# Altium footprint library TFLGA65P500X500X106-14_13N-V.PcbLib: 1 footprints
Each footprint in its own frame and in the unit in brackets; x right, y up, seen from the top. Pads: shape width x height; smd on the part's side, far side on the other; paste and mask are expansions set on the pad; w line width, h text height; cw(c..) or ccw(c..) is an arc to the next point about the centre after c.
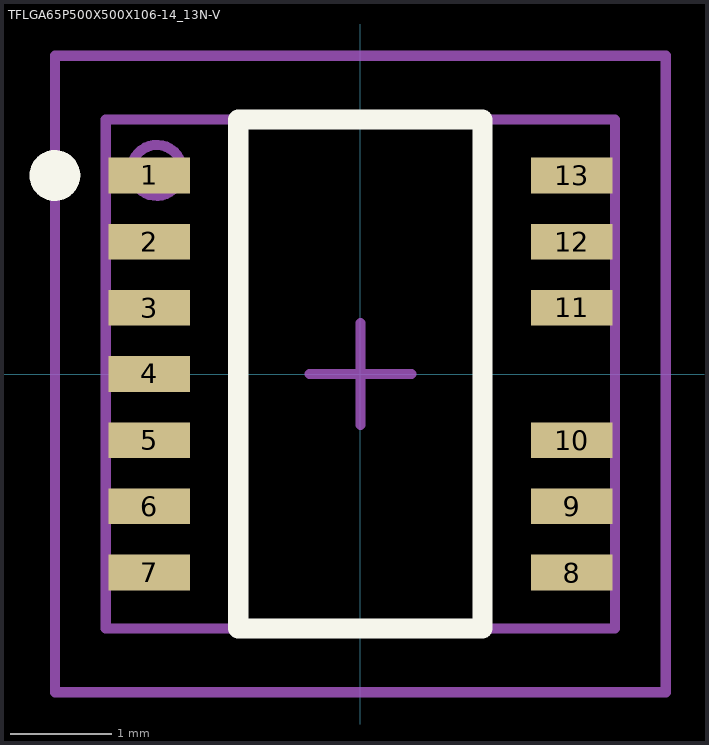
[diagram p0: the footprint, top view; thin cyan lines are the x and y axes]

## TFLGA65P500X500X106-14_13N-V [mm] "TFLGA,0.65mm pitch;13 pin,5.00mm W X 5.00mm L X 1.06mm H body (w/pullback leads)"
height 1.06
pads (13):
  rect 0.8x0.35 smd paste-0.8 mask+0: 1(-2.075,1.95) 2(-2.075,1.3) 3(-2.075,0.65) 4(-2.075,0) 5(-2.075,-0.65) 6(-2.075,-1.3) 7(-2.075,-1.95) 8(2.075,-1.95) 9(2.075,-1.3) 10(2.075,-0.65) 11(2.075,0.65) 12(2.075,1.3) 13(2.075,1.95)
Top Overlay:
  circle w0.25: c-3,1.95 r0.125
  lines w0.2: -1.2,-2.5 1.2,-2.5 1.2,2.5 -1.2,2.5 -1.2,-2.5
Top Paste:
  drawing of 14 lines, arcs and shapes, not listed
M3 (ASY_Text_Top):
  text ".DESIGNATOR" at 0,0 h1.2
M13 (CMP_Body_OTL_Top):
  circle w0.1: c-2,2 r0.25
  lines w0.1: -2.5,-2.5 -2.5,2.5 2.5,2.5 2.5,-2.5 -2.5,-2.5
M15 (CMP_Courtyard_Top):
  lines w0.1: -0.5,0 0.5,0 ; 0,-0.5 0,0.5 ; -3,-3.125 -3,3.125 3,3.125 3,-3.125 -3,-3.125
3D body "TFLGA-13-1.stp": height 1.07, standoff 0, extent -2.5,-2.5 2.5,2.5